# EAGLE library part W25Q16JVUXIQ_TR (library SamacSys_Parts)
NOR Flash spiFlash, 3V, 16M-bit, 4Kb Uniform Sector, DTR Source: Datasheet <https://componentsearchengine.com/Datasheets/1/W25Q16JVUXIQ TR.pdf>
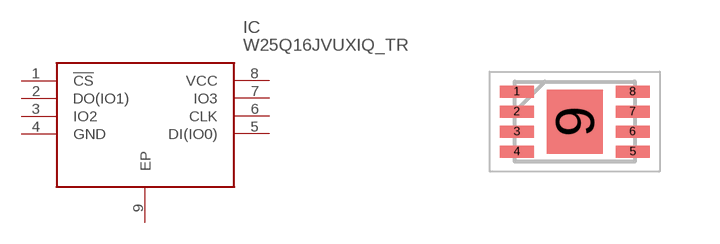
[diagram p83: symbol with the pads of SON50P300X200X60-9N; footprint SON50P300X200X60-9N]

Designator prefix IC

## W25Q16JVUXIQ_TR (DESCRIPTION: NOR Flash spiFlash, 3V, 16M-bit, 4Kb Uniform Sector, DTR; HEIGHT: 0.6mm; MANUFACTURER_NAME: Winbond; MANUFACTURER_PART_NUMBER: W25Q16JVUXIQ TR; MOUSER_PART_NUMBER: 454-W25Q16JVUXIQTR; MOUSER_PRICE-STOCK: https://www.mouser.co.uk/ProductDetail/Winbond/W25Q16JVUXIQ-TR?qs=qSfuJ%252Bfl%2Fd7SDdIHLGOd1g%3D%3D)  [SON50P300X200X60-9N]
1  !CS
2  DO(IO1)
3  IO2
4  GND
5  DI(IO0)
6  CLK
7  IO3
8  VCC
9  EP

## Footprint SON50P300X200X60-9N (pad centres in mm)
8-Lead Plastic DFN (MN)
smd 0.85 x 0.3: 1 -1.45,0.75; 2 -1.45,0.25; 3 -1.45,-0.25; 4 -1.45,-0.75; 5 1.45,-0.75; 6 1.45,-0.25; 7 1.45,0.25; 8 1.45,0.75
smd 1.4 x 1.6: 9 0,0